# EAGLE library part 615006144121 (library Wurth_Elektronik_Electromechanic_Input-Output_Connectors_rev16a)
WR-MJ Vertical Plastic 6PxC Modular Jack With Ear,6 pins=>Code : Con_I-O_MJ-V_Plastic_615006144121 <http://katalog.we-online.de/media/images/eican/Con_I-O_MJ-V_Plastic_6150xx144121_pf2.jpg> Details see: http://katalog.we-online.de/en/em/615_0xx_144_121 Created 2014-07-10, Karrer Zheng 2014 (C) Würth Elektronik
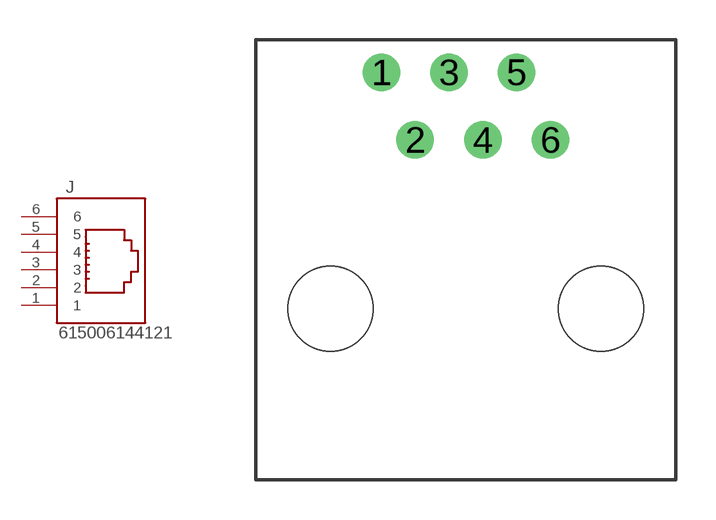
[diagram p106: symbol with the pads of 615006144121; footprint 615006144121]

Designator prefix J

## 615006144121  [615006144121]
1  1  pas
2  2  pas
3  3  pas
4  4  pas
5  5  pas
6  6  pas

## Footprint 615006144121 (pad centres in mm)
WR-MJ Vertical Plastic 6PxC Modular Jack With Ear,6 pins
drill 0.9: 1 -3.175,1.27; 2 -1.905,-1.27; 3 -0.635,1.27; 4 0.635,-1.27; 5 1.905,1.27; 6 3.175,-1.27
hole 3.2 at -5.08,-7.62
hole 3.2 at 5.08,-7.62